# EAGLE library part SE95D (library Kolja)
Mouser 771-SE95D118, 0,559€, SOIC8
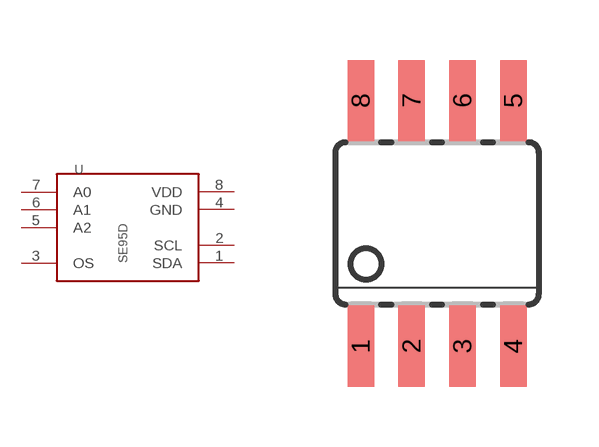
[diagram p11: symbol with the pads of SOIC8; footprint SOIC8]

Designator prefix -

## SE95D  [SOIC8]
1  SDA
2  SCL
3  OS
4  GND  pwr
5  A2
6  A1
7  A0
8  VDD  pwr

## Footprint SOIC8 (pad centres in mm)
smd 0.66 x 2.032: 1 -1.975,-3.143; 2 -0.705,-3.143; 3 0.565,-3.143; 4 1.835,-3.143; 5 1.835,3.003; 6 0.565,3.003; 7 -0.705,3.003; 8 -1.975,3.003